# Altium schematic symbol library SWITCH_SPST.SchLib: 1 symbol
Pins are listed as number, name and electrical type; pins without a type are passive.

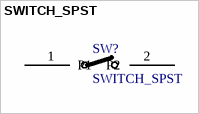
[diagram p0: symbol SWITCH_SPST]

## SWITCH_SPST
designator SW?
SPST switch symbol
pins: 1 P1, 2 P2